# Altium integrated library W25Q128.IntLib: 1 symbol
Pins are listed as number, name and electrical type; pins without a type are passive.

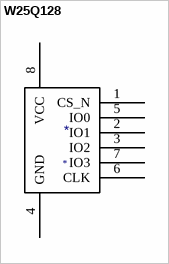
[diagram p0: symbol W25Q128]

## W25Q128
designator *
footprint SOIC-8
pins: 1 CS_N, 2 IO1, 3 IO2, 4 GND, 5 IO0, 6 CLK, 7 IO3, 8 VCC